# Altium integrated library Xilinx XC17S00A.IntLib: 46 symbols (part 1 of 2)
Pins are listed as number, name and electrical type; pins without a type are passive.

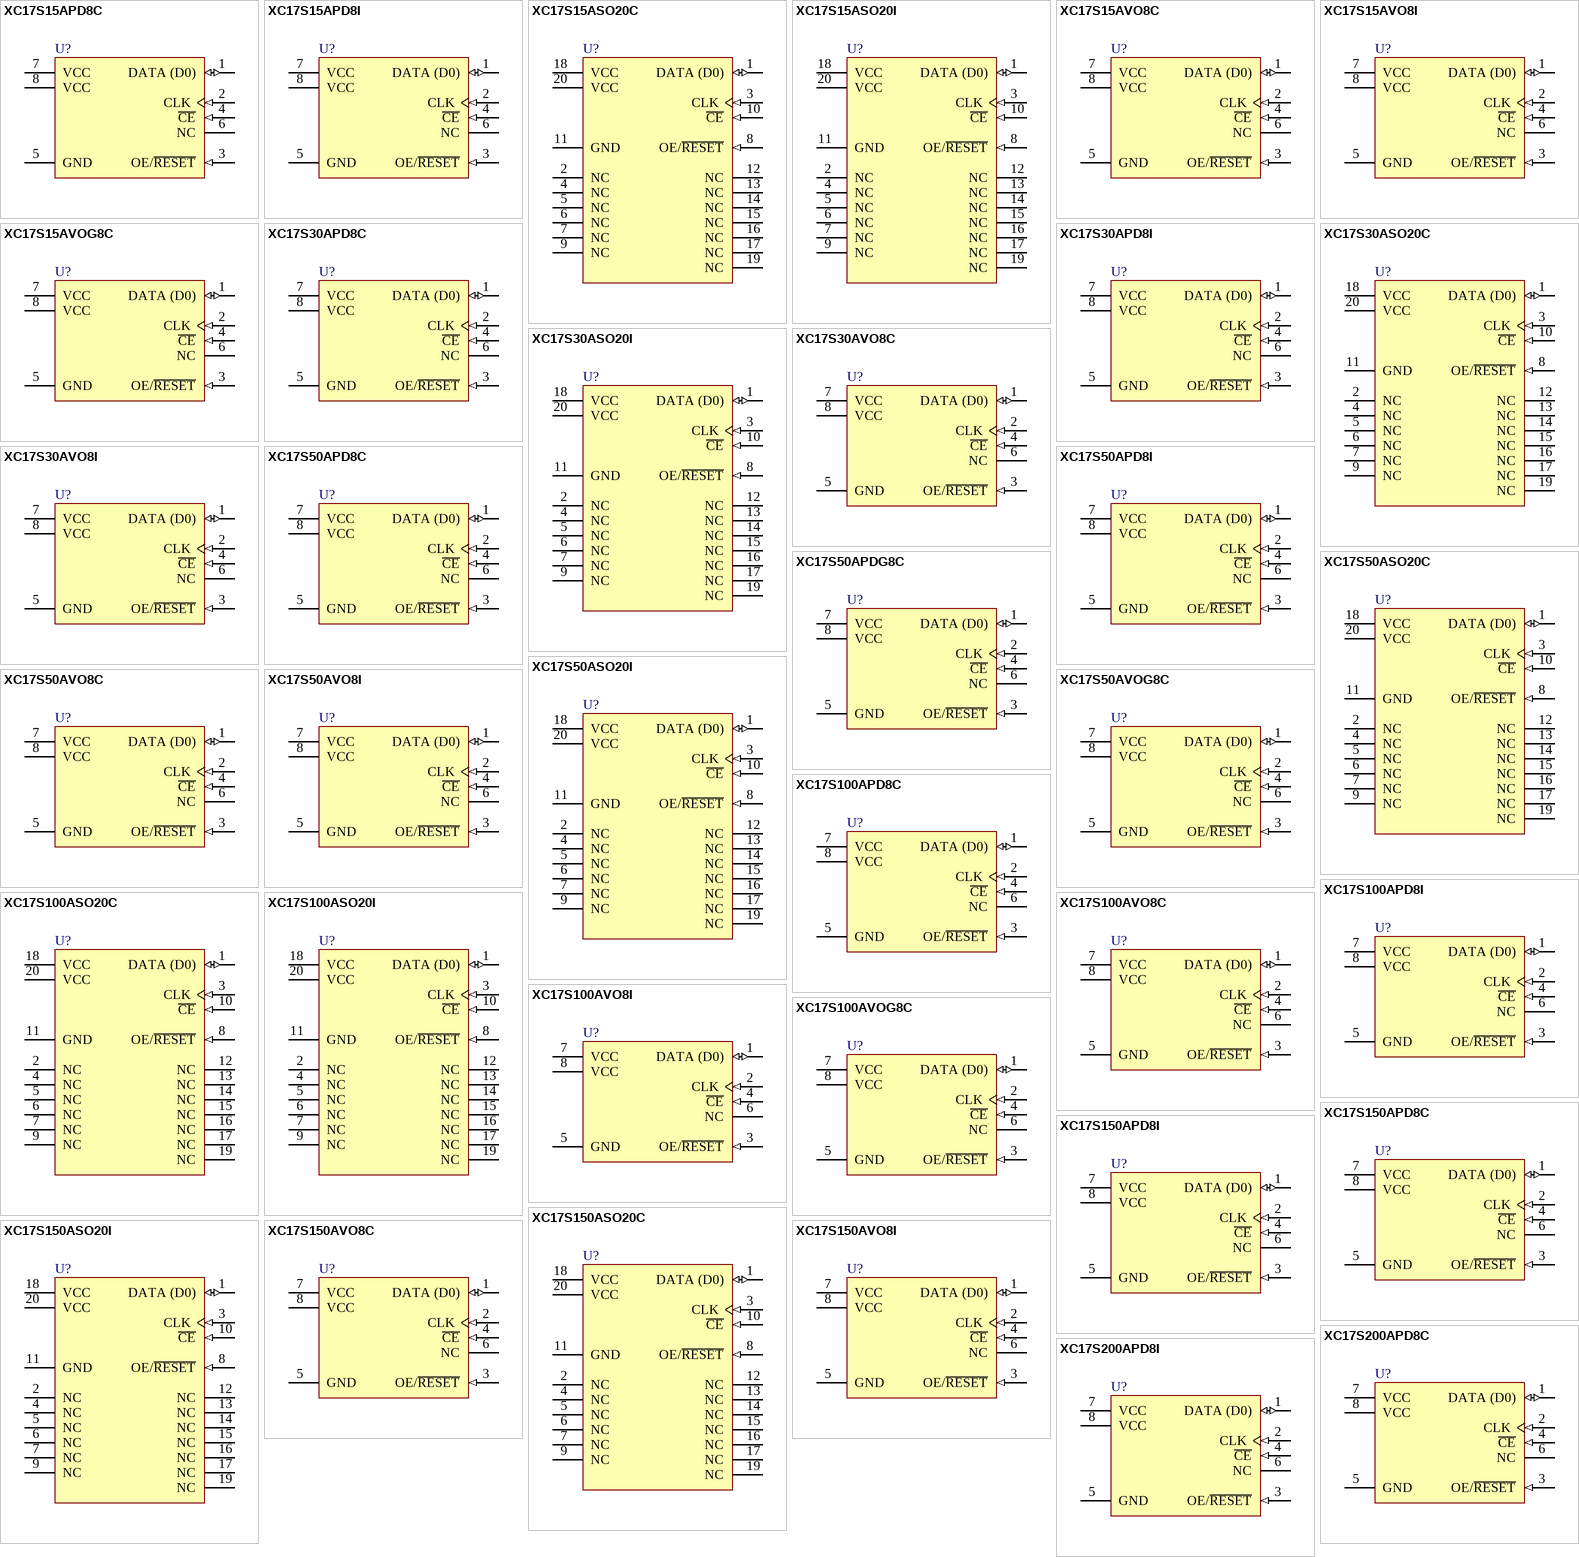
[diagram p0: symbols XC17S15APD8C to XC17S200APD8I]

## XC17S15APD8C
designator U?
XC17S00A Series, One-Time Programmable Configuration 3.3V PROM, 8-Pin PDIP, XC2S15 Compatible, Commercial Grade; Published: 17-Dec-2003; DatasheetVersion: ver1.10, Jun-2007; PackageVersion: rev1.1, Apr-2001; PackageReference: PD8; Publisher: Altium Limited; PackageDescription: 8-Pin Plastic DIP (PD8); Supplier 1: Digi-Key; Supplier Part Number 1: XC17S15APD8C-ND; Code_JEDEC: MS-001-BA; ComponentLink1Description: XC17S00A Datasheet; ComponentLink1URL: http://www.xilinx.com/support/documentation/data_sheets/ds078.pdf; ComponentLink2Description: PD8 Package Drawing; ComponentLink2URL: http://www.xilinx.com/support/documentation/package_specs/pd08.pdf; ComponentLink3Description: Configuration PROM Documents; ComponentLink3URL: http://www.xilinx.com/support/documentation/configuration_proms.htm; ComponentLink4Description: Xilinx.com Home; ComponentLink4URL: http://www.xilinx.com
footprint PD8 (DIP, 8-Leads, Row Spacing 7.62mm, Pitch 2.54mm, Body 9.36x6.5mm)
pins: 1 DATA (D0) (io) "Data Output.", 2 CLK (in) "Clock input for internal address counter.", 3 OE/~{RESET} (in) "DATA Output Enable/Address Counter Reset", 4 ~{CE} (in) "Reset internal Address Counter, Disable DATA Output, Force device into Standby Mode.", 5 GND (power) "Ground.", 6 NC "No Connection.", 7 VCC (power) "Positive Supply.", 8 VCC (power) "Positive Supply."

## XC17S15APD8I
designator U?
XC17S00A Series, One-Time Programmable Configuration 3.3V PROM, 8-Pin PDIP, XC2S15 Compatible, Industrial Grade; Published: 17-Dec-2003; DatasheetVersion: ver1.10, Jun-2007; PackageVersion: rev1.1, Apr-2001; PackageReference: PD8; Publisher: Altium Limited; PackageDescription: 8-Pin Plastic DIP (PD8); Supplier 1: Digi-Key; Supplier Part Number 1: XC17S15APD8I-ND; Code_JEDEC: MS-001-BA; ComponentLink1Description: XC17S00A Datasheet; ComponentLink1URL: http://www.xilinx.com/support/documentation/data_sheets/ds078.pdf; ComponentLink2Description: PD8 Package Drawing; ComponentLink2URL: http://www.xilinx.com/support/documentation/package_specs/pd08.pdf; ComponentLink3Description: Configuration PROM Documents; ComponentLink3URL: http://www.xilinx.com/support/documentation/configuration_proms.htm; ComponentLink4Description: Xilinx.com Home; ComponentLink4URL: http://www.xilinx.com
footprint PD8 (DIP, 8-Leads, Row Spacing 7.62mm, Pitch 2.54mm, Body 9.36x6.5mm)
pins: 1 DATA (D0) (io) "Data Output.", 2 CLK (in) "Clock input for internal address counter.", 3 OE/~{RESET} (in) "DATA Output Enable/Address Counter Reset", 4 ~{CE} (in) "Reset internal Address Counter, Disable DATA Output, Force device into Standby Mode.", 5 GND (power) "Ground.", 6 NC "No Connection.", 7 VCC (power) "Positive Supply.", 8 VCC (power) "Positive Supply."

## XC17S15ASO20C
designator U?
XC17S00A Series, One-Time Programmable Configuration 3.3V PROM, 20-Pin SOIC, XC2S15 Compatible, Commercial Grade; Published: 17-Dec-2003; LatestRevisionDate: 16-Nov-2009; LatestRevisionNote: Updated to datasheet version 1.10, Jun-2007.; DatasheetVersion: ver1.10, Jun-2007; PackageVersion: ver1.0, Jun-2000; PackageReference: SO20; Publisher: Altium Limited; PackageDescription: 20-Pin Small Outline Package (SO20); Supplier 1: Digi-Key; Supplier Part Number 1: XC17S15ASO20C-ND; Code_JEDEC: MS-013-AC; ComponentLink1Description: XC17S00A Datasheet; ComponentLink1URL: http://www.xilinx.com/support/documentation/data_sheets/ds078.pdf; ComponentLink2Description: SO20 Package Drawing; ComponentLink2URL: http://www.xilinx.com/support/documentation/package_specs/so20.pdf; ComponentLink3Description: Configuration PROM Documents; ComponentLink3URL: http://www.xilinx.com/support/documentation/configuration_proms.htm; ComponentLink4Description: Xilinx.com Home; ComponentLink4URL: http://www.xilinx.com
footprint SO20_N (SOIC, 20-Leads, Body 12.8x7.5mm, Pitch 1.27mm, IPC Medium Density)
footprint SO20_L (SOIC, 20-Leads, Body 12.8x7.5mm, Pitch 1.27mm, IPC High Density)
footprint SO20_M (SOIC, 20-Leads, Body 12.8x7.5mm, Pitch 1.27mm, IPC Low Density)
pins: 1 DATA (D0) (io) "Data Output.", 2 NC "No Connection.", 3 CLK (in) "Clock input for internal address counter.", 4 NC "No Connection.", 5 NC "No Connection.", 6 NC "No Connection.", 7 NC "No Connection.", 8 OE/~{RESET} (in) "DATA Output Enable/Address Counter Reset", 9 NC "No Connection.", 10 ~{CE} (in) "Reset internal Address Counter, Disable DATA Output, Force device into Standby Mode.", 11 GND (power) "Ground.", 12 NC "No Connection.", 13 NC "No Connection.", 14 NC "No Connection.", 15 NC "No Connection.", 16 NC "No Connection.", 17 NC "No Connection.", 18 VCC (power) "Positive Supply.", 19 NC "No Connection.", 20 VCC (power) "Positive Supply."

## XC17S15ASO20I
designator U?
XC17S00A Series, One-Time Programmable Configuration 3.3V PROM, 20-Pin SOIC, XC2S15 Compatible, Industrial Grade; Published: 17-Dec-2003; LatestRevisionDate: 16-Nov-2009; LatestRevisionNote: Updated to datasheet version 1.10, Jun-2007.; DatasheetVersion: ver1.10, Jun-2007; PackageVersion: ver1.0, Jun-2000; PackageReference: SO20; Publisher: Altium Limited; PackageDescription: 20-Pin Small Outline Package (SO20); Supplier 1: Digi-Key; Supplier Part Number 1: XC17S15ASO20I-ND; Code_JEDEC: MS-013-AC; ComponentLink1Description: XC17S00A Datasheet; ComponentLink1URL: http://www.xilinx.com/support/documentation/data_sheets/ds078.pdf; ComponentLink2Description: SO20 Package Drawing; ComponentLink2URL: http://www.xilinx.com/support/documentation/package_specs/so20.pdf; ComponentLink3Description: Configuration PROM Documents; ComponentLink3URL: http://www.xilinx.com/support/documentation/configuration_proms.htm; ComponentLink4Description: Xilinx.com Home; ComponentLink4URL: http://www.xilinx.com
footprint SO20_N (SOIC, 20-Leads, Body 12.8x7.5mm, Pitch 1.27mm, IPC Medium Density)
footprint SO20_L (SOIC, 20-Leads, Body 12.8x7.5mm, Pitch 1.27mm, IPC High Density)
footprint SO20_M (SOIC, 20-Leads, Body 12.8x7.5mm, Pitch 1.27mm, IPC Low Density)
pins: 1 DATA (D0) (io) "Data Output.", 2 NC "No Connection.", 3 CLK (in) "Clock input for internal address counter.", 4 NC "No Connection.", 5 NC "No Connection.", 6 NC "No Connection.", 7 NC "No Connection.", 8 OE/~{RESET} (in) "DATA Output Enable/Address Counter Reset", 9 NC "No Connection.", 10 ~{CE} (in) "Reset internal Address Counter, Disable DATA Output, Force device into Standby Mode.", 11 GND (power) "Ground.", 12 NC "No Connection.", 13 NC "No Connection.", 14 NC "No Connection.", 15 NC "No Connection.", 16 NC "No Connection.", 17 NC "No Connection.", 18 VCC (power) "Positive Supply.", 19 NC "No Connection.", 20 VCC (power) "Positive Supply."

## XC17S15AVO8C
designator U?
XC17S00A Series, One-Time Programmable Configuration 3.3V PROM, 8-Pin TSOP, XC2S15 Compatible, Commercial Grade; Published: 17-Dec-2003; LatestRevisionDate: 16-Nov-2009; LatestRevisionNote: Updated to datasheet version 1.10, Jun-2007.; DatasheetVersion: ver1.10, Jun-2007; PackageVersion: ver1.1, Apr-2001; PackageReference: VO8; Publisher: Altium Limited; PackageDescription: 8-Pin Thin Small Outline Package (VO8); Supplier 1: Digi-Key; Supplier Part Number 1: XC17S15AVO8C-ND; ComponentLink1Description: XC17S00A Datasheet; ComponentLink1URL: http://www.xilinx.com/support/documentation/data_sheets/ds078.pdf; ComponentLink2Description: VO8 Package Drawing; ComponentLink2URL: http://www.xilinx.com/support/documentation/package_specs/vo8.pdf; ComponentLink3Description: Configuration PROM Documents; ComponentLink3URL: http://www.xilinx.com/support/documentation/configuration_proms.htm; ComponentLink4Description: Xilinx.com Home; ComponentLink4URL: http://www.xilinx.com
footprint VO8_N (SOIC, 8-Leads, Body 4.9x3.9mm, Pitch 1.27mm, IPC Medium Density)
footprint VO8_L (SOIC, 8-Leads, Body 4.9x3.9mm, Pitch 1.27mm, IPC High Density)
footprint VO8_M (SOIC, 8-Leads, Body 4.9x3.9mm, Pitch 1.27mm, IPC Low Density)
pins: 1 DATA (D0) (io) "Data Output.", 2 CLK (in) "Clock input for internal address counter.", 3 OE/~{RESET} (in) "DATA Output Enable/Address Counter Reset", 4 ~{CE} (in) "Reset internal Address Counter, Disable DATA Output, Force device into Standby Mode.", 5 GND (power) "Ground.", 6 NC "No Connection.", 7 VCC (power) "Positive Supply.", 8 VCC (power) "Positive Supply."

## XC17S15AVO8I
designator U?
XC17S00A Series, One-Time Programmable Configuration 3.3V PROM, 8-Pin TSOP, XC2S15 Compatible, Industrial Grade; Published: 17-Dec-2003; LatestRevisionDate: 16-Nov-2009; LatestRevisionNote: Updated to datasheet version 1.10, Jun-2007.; DatasheetVersion: ver1.10, Jun-2007; PackageVersion: ver1.1, Apr-2001; PackageReference: VO8; Publisher: Altium Limited; PackageDescription: 8-Pin Thin Small Outline Package (VO8); Supplier 1: Digi-Key; Supplier Part Number 1: XC17S15AVO8I-ND; ComponentLink1Description: XC17S00A Datasheet; ComponentLink1URL: http://www.xilinx.com/support/documentation/data_sheets/ds078.pdf; ComponentLink2Description: VO8 Package Drawing; ComponentLink2URL: http://www.xilinx.com/support/documentation/package_specs/vo8.pdf; ComponentLink3Description: Configuration PROM Documents; ComponentLink3URL: http://www.xilinx.com/support/documentation/configuration_proms.htm; ComponentLink4Description: Xilinx.com Home; ComponentLink4URL: http://www.xilinx.com
footprint VO8_N (SOIC, 8-Leads, Body 4.9x3.9mm, Pitch 1.27mm, IPC Medium Density)
footprint VO8_L (SOIC, 8-Leads, Body 4.9x3.9mm, Pitch 1.27mm, IPC High Density)
footprint VO8_M (SOIC, 8-Leads, Body 4.9x3.9mm, Pitch 1.27mm, IPC Low Density)
pins: 1 DATA (D0) (io) "Data Output.", 2 CLK (in) "Clock input for internal address counter.", 3 OE/~{RESET} (in) "DATA Output Enable/Address Counter Reset", 4 ~{CE} (in) "Reset internal Address Counter, Disable DATA Output, Force device into Standby Mode.", 5 GND (power) "Ground.", 6 NC "No Connection.", 7 VCC (power) "Positive Supply.", 8 VCC (power) "Positive Supply."

## XC17S15AVOG8C
designator U?
XC17S00A Series, One-Time Programmable Configuration 3.3V PROM, 8-Pin TSOP, XC2S15 Compatible, Commercial Grade, Pb-Free; Published: 6-Oct-2005; LatestRevisionDate: 16-Nov-2009; LatestRevisionNote: Updated to datasheet version 1.10, Jun-2007.; DatasheetVersion: ver1.10, Jun-2007; PackageVersion: ver1.1, Apr-2001; PackageReference: VOG8; Publisher: Altium Limited; PackageDescription: 8-Pin Thin Small Outline Package (VOG8) - Pb-Free; Supplier 1: Digi-Key; Supplier Part Number 1: XC17S15AVOG8C-ND; ComponentLink1Description: XC17S00A Datasheet; ComponentLink1URL: http://www.xilinx.com/support/documentation/data_sheets/ds078.pdf; ComponentLink2Description: VOG8 Package Drawing; ComponentLink2URL: http://www.xilinx.com/support/documentation/package_specs/vo8.pdf; ComponentLink3Description: Configuration PROM Documents; ComponentLink3URL: http://www.xilinx.com/support/documentation/configuration_proms.htm; ComponentLink4Description: Xilinx.com Home; ComponentLink4URL: http://www.xilinx.com
footprint VOG8_N (SOIC, 8-Leads, Body 4.9x3.9mm, Pitch 1.27mm, IPC Medium Density)
footprint VOG8_L (SOIC, 8-Leads, Body 4.9x3.9mm, Pitch 1.27mm, IPC High Density)
footprint VOG8_M (SOIC, 8-Leads, Body 4.9x3.9mm, Pitch 1.27mm, IPC Low Density)
pins: 1 DATA (D0) (io) "Data Output.", 2 CLK (in) "Clock input for internal address counter.", 3 OE/~{RESET} (in) "DATA Output Enable/Address Counter Reset", 4 ~{CE} (in) "Reset internal Address Counter, Disable DATA Output, Force device into Standby Mode.", 5 GND (power) "Ground.", 6 NC "No Connection.", 7 VCC (power) "Positive Supply.", 8 VCC (power) "Positive Supply."

## XC17S30APD8C
designator U?
XC17S00A Series, One-Time Programmable Configuration 3.3V PROM, 8-Pin PDIP, XC2S30 Compatible, Commercial Grade; Published: 17-Dec-2003; DatasheetVersion: ver1.10, Jun-2007; PackageVersion: rev1.1, Apr-2001; PackageReference: PD8; Publisher: Altium Limited; PackageDescription: 8-Pin Plastic DIP (PD8); Supplier 1: Digi-Key; Supplier Part Number 1: XC17S30APD8C-ND; Code_JEDEC: MS-001-BA; ComponentLink1Description: XC17S00A Datasheet; ComponentLink1URL: http://www.xilinx.com/support/documentation/data_sheets/ds078.pdf; ComponentLink2Description: PD8 Package Drawing; ComponentLink2URL: http://www.xilinx.com/support/documentation/package_specs/pd08.pdf; ComponentLink3Description: Configuration PROM Documents; ComponentLink3URL: http://www.xilinx.com/support/documentation/configuration_proms.htm; ComponentLink4Description: Xilinx.com Home; ComponentLink4URL: http://www.xilinx.com
footprint PD8 (DIP, 8-Leads, Row Spacing 7.62mm, Pitch 2.54mm, Body 9.36x6.5mm)
pins: 1 DATA (D0) (io) "Data Output.", 2 CLK (in) "Clock input for internal address counter.", 3 OE/~{RESET} (in) "DATA Output Enable/Address Counter Reset", 4 ~{CE} (in) "Reset internal Address Counter, Disable DATA Output, Force device into Standby Mode.", 5 GND (power) "Ground.", 6 NC "No Connection.", 7 VCC (power) "Positive Supply.", 8 VCC (power) "Positive Supply."

## XC17S30APD8I
designator U?
XC17S00A Series, One-Time Programmable Configuration 3.3V PROM, 8-Pin PDIP, XC2S30 Compatible, Industrial Grade; Published: 17-Dec-2003; DatasheetVersion: ver1.10, Jun-2007; PackageVersion: rev1.1, Apr-2001; PackageReference: PD8; Publisher: Altium Limited; PackageDescription: 8-Pin Plastic DIP (PD8); Supplier 1: Digi-Key; Supplier Part Number 1: XC17S30APD8I-ND; Code_JEDEC: MS-001-BA; ComponentLink1Description: XC17S00A Datasheet; ComponentLink1URL: http://www.xilinx.com/support/documentation/data_sheets/ds078.pdf; ComponentLink2Description: PD8 Package Drawing; ComponentLink2URL: http://www.xilinx.com/support/documentation/package_specs/pd08.pdf; ComponentLink3Description: Configuration PROM Documents; ComponentLink3URL: http://www.xilinx.com/support/documentation/configuration_proms.htm; ComponentLink4Description: Xilinx.com Home; ComponentLink4URL: http://www.xilinx.com
footprint PD8 (DIP, 8-Leads, Row Spacing 7.62mm, Pitch 2.54mm, Body 9.36x6.5mm)
pins: 1 DATA (D0) (io) "Data Output.", 2 CLK (in) "Clock input for internal address counter.", 3 OE/~{RESET} (in) "DATA Output Enable/Address Counter Reset", 4 ~{CE} (in) "Reset internal Address Counter, Disable DATA Output, Force device into Standby Mode.", 5 GND (power) "Ground.", 6 NC "No Connection.", 7 VCC (power) "Positive Supply.", 8 VCC (power) "Positive Supply."

## XC17S30ASO20C
designator U?
XC17S00A Series, One-Time Programmable Configuration 3.3V PROM, 20-Pin SOIC, XC2S30 Compatible, Commercial Grade; Published: 17-Dec-2003; LatestRevisionDate: 16-Nov-2009; LatestRevisionNote: Updated to datasheet version 1.10, Jun-2007.; DatasheetVersion: ver1.10, Jun-2007; PackageVersion: ver1.0, Jun-2000; PackageReference: SO20; Publisher: Altium Limited; PackageDescription: 20-Pin Small Outline Package (SO20); Supplier 1: Digi-Key; Supplier Part Number 1: XC17S30ASO20C-ND; Code_JEDEC: MS-013-AC; ComponentLink1Description: XC17S00A Datasheet; ComponentLink1URL: http://www.xilinx.com/support/documentation/data_sheets/ds078.pdf; ComponentLink2Description: SO20 Package Drawing; ComponentLink2URL: http://www.xilinx.com/support/documentation/package_specs/so20.pdf; ComponentLink3Description: Configuration PROM Documents; ComponentLink3URL: http://www.xilinx.com/support/documentation/configuration_proms.htm; ComponentLink4Description: Xilinx.com Home; ComponentLink4URL: http://www.xilinx.com
footprint SO20_N (SOIC, 20-Leads, Body 12.8x7.5mm, Pitch 1.27mm, IPC Medium Density)
footprint SO20_L (SOIC, 20-Leads, Body 12.8x7.5mm, Pitch 1.27mm, IPC High Density)
footprint SO20_M (SOIC, 20-Leads, Body 12.8x7.5mm, Pitch 1.27mm, IPC Low Density)
pins: 1 DATA (D0) (io) "Data Output.", 2 NC "No Connection.", 3 CLK (in) "Clock input for internal address counter.", 4 NC "No Connection.", 5 NC "No Connection.", 6 NC "No Connection.", 7 NC "No Connection.", 8 OE/~{RESET} (in) "DATA Output Enable/Address Counter Reset", 9 NC "No Connection.", 10 ~{CE} (in) "Reset internal Address Counter, Disable DATA Output, Force device into Standby Mode.", 11 GND (power) "Ground.", 12 NC "No Connection.", 13 NC "No Connection.", 14 NC "No Connection.", 15 NC "No Connection.", 16 NC "No Connection.", 17 NC "No Connection.", 18 VCC (power) "Positive Supply.", 19 NC "No Connection.", 20 VCC (power) "Positive Supply."

## XC17S30ASO20I
designator U?
XC17S00A Series, One-Time Programmable Configuration 3.3V PROM, 20-Pin SOIC, XC2S30 Compatible, Industrial Grade; Published: 17-Dec-2003; LatestRevisionDate: 16-Nov-2009; LatestRevisionNote: Updated to datasheet version 1.10, Jun-2007.; DatasheetVersion: ver1.10, Jun-2007; PackageVersion: ver1.0, Jun-2000; PackageReference: SO20; Publisher: Altium Limited; PackageDescription: 20-Pin Small Outline Package (SO20); Supplier 1: Digi-Key; Supplier Part Number 1: XC17S30ASO20I-ND; Code_JEDEC: MS-013-AC; ComponentLink1Description: XC17S00A Datasheet; ComponentLink1URL: http://www.xilinx.com/support/documentation/data_sheets/ds078.pdf; ComponentLink2Description: SO20 Package Drawing; ComponentLink2URL: http://www.xilinx.com/support/documentation/package_specs/so20.pdf; ComponentLink3Description: Configuration PROM Documents; ComponentLink3URL: http://www.xilinx.com/support/documentation/configuration_proms.htm; ComponentLink4Description: Xilinx.com Home; ComponentLink4URL: http://www.xilinx.com
footprint SO20_N (SOIC, 20-Leads, Body 12.8x7.5mm, Pitch 1.27mm, IPC Medium Density)
footprint SO20_L (SOIC, 20-Leads, Body 12.8x7.5mm, Pitch 1.27mm, IPC High Density)
footprint SO20_M (SOIC, 20-Leads, Body 12.8x7.5mm, Pitch 1.27mm, IPC Low Density)
pins: 1 DATA (D0) (io) "Data Output.", 2 NC "No Connection.", 3 CLK (in) "Clock input for internal address counter.", 4 NC "No Connection.", 5 NC "No Connection.", 6 NC "No Connection.", 7 NC "No Connection.", 8 OE/~{RESET} (in) "DATA Output Enable/Address Counter Reset", 9 NC "No Connection.", 10 ~{CE} (in) "Reset internal Address Counter, Disable DATA Output, Force device into Standby Mode.", 11 GND (power) "Ground.", 12 NC "No Connection.", 13 NC "No Connection.", 14 NC "No Connection.", 15 NC "No Connection.", 16 NC "No Connection.", 17 NC "No Connection.", 18 VCC (power) "Positive Supply.", 19 NC "No Connection.", 20 VCC (power) "Positive Supply."

## XC17S30AVO8C
designator U?
XC17S00A Series, One-Time Programmable Configuration 3.3V PROM, 8-Pin TSOP, XC2S30 Compatible, Commercial Grade; Published: 17-Dec-2003; LatestRevisionDate: 16-Nov-2009; LatestRevisionNote: Updated to datasheet version 1.10, Jun-2007.; DatasheetVersion: ver1.10, Jun-2007; PackageVersion: ver1.1, Apr-2001; PackageReference: VO8; Publisher: Altium Limited; PackageDescription: 8-Pin Thin Small Outline Package (VO8); Supplier 1: Digi-Key; Supplier Part Number 1: XC17S30AVO8C-ND; ComponentLink1Description: XC17S00A Datasheet; ComponentLink1URL: http://www.xilinx.com/support/documentation/data_sheets/ds078.pdf; ComponentLink2Description: VO8 Package Drawing; ComponentLink2URL: http://www.xilinx.com/support/documentation/package_specs/vo8.pdf; ComponentLink3Description: Configuration PROM Documents; ComponentLink3URL: http://www.xilinx.com/support/documentation/configuration_proms.htm; ComponentLink4Description: Xilinx.com Home; ComponentLink4URL: http://www.xilinx.com
footprint VO8_N (SOIC, 8-Leads, Body 4.9x3.9mm, Pitch 1.27mm, IPC Medium Density)
footprint VO8_L (SOIC, 8-Leads, Body 4.9x3.9mm, Pitch 1.27mm, IPC High Density)
footprint VO8_M (SOIC, 8-Leads, Body 4.9x3.9mm, Pitch 1.27mm, IPC Low Density)
pins: 1 DATA (D0) (io) "Data Output.", 2 CLK (in) "Clock input for internal address counter.", 3 OE/~{RESET} (in) "DATA Output Enable/Address Counter Reset", 4 ~{CE} (in) "Reset internal Address Counter, Disable DATA Output, Force device into Standby Mode.", 5 GND (power) "Ground.", 6 NC "No Connection.", 7 VCC (power) "Positive Supply.", 8 VCC (power) "Positive Supply."

## XC17S30AVO8I
designator U?
XC17S00A Series, One-Time Programmable Configuration 3.3V PROM, 8-Pin TSOP, XC2S30 Compatible, Industrial Grade; Published: 17-Dec-2003; LatestRevisionDate: 16-Nov-2009; LatestRevisionNote: Updated to datasheet version 1.10, Jun-2007.; DatasheetVersion: ver1.10, Jun-2007; PackageVersion: ver1.1, Apr-2001; PackageReference: VO8; Publisher: Altium Limited; PackageDescription: 8-Pin Thin Small Outline Package (VO8); Supplier 1: Digi-Key; Supplier Part Number 1: XC17S30AVO8I-ND; ComponentLink1Description: XC17S00A Datasheet; ComponentLink1URL: http://www.xilinx.com/support/documentation/data_sheets/ds078.pdf; ComponentLink2Description: VO8 Package Drawing; ComponentLink2URL: http://www.xilinx.com/support/documentation/package_specs/vo8.pdf; ComponentLink3Description: Configuration PROM Documents; ComponentLink3URL: http://www.xilinx.com/support/documentation/configuration_proms.htm; ComponentLink4Description: Xilinx.com Home; ComponentLink4URL: http://www.xilinx.com
footprint VO8_N (SOIC, 8-Leads, Body 4.9x3.9mm, Pitch 1.27mm, IPC Medium Density)
footprint VO8_L (SOIC, 8-Leads, Body 4.9x3.9mm, Pitch 1.27mm, IPC High Density)
footprint VO8_M (SOIC, 8-Leads, Body 4.9x3.9mm, Pitch 1.27mm, IPC Low Density)
pins: 1 DATA (D0) (io) "Data Output.", 2 CLK (in) "Clock input for internal address counter.", 3 OE/~{RESET} (in) "DATA Output Enable/Address Counter Reset", 4 ~{CE} (in) "Reset internal Address Counter, Disable DATA Output, Force device into Standby Mode.", 5 GND (power) "Ground.", 6 NC "No Connection.", 7 VCC (power) "Positive Supply.", 8 VCC (power) "Positive Supply."

## XC17S50APD8C
designator U?
XC17S00A Series, One-Time Programmable Configuration 3.3V PROM, 8-Pin PDIP, XC2S50/XC2S50E Compatible, Commercial Grade; Published: 17-Dec-2003; DatasheetVersion: ver1.10, Jun-2007; PackageVersion: rev1.1, Apr-2001; PackageReference: PD8; Publisher: Altium Limited; PackageDescription: 8-Pin Plastic DIP (PD8); Supplier 1: Digi-Key; Supplier Part Number 1: XC17S50APD8C-ND; Code_JEDEC: MS-001-BA; ComponentLink1Description: XC17S00A Datasheet; ComponentLink1URL: http://www.xilinx.com/support/documentation/data_sheets/ds078.pdf; ComponentLink2Description: PD8 Package Drawing; ComponentLink2URL: http://www.xilinx.com/support/documentation/package_specs/pd08.pdf; ComponentLink3Description: Configuration PROM Documents; ComponentLink3URL: http://www.xilinx.com/support/documentation/configuration_proms.htm; ComponentLink4Description: Xilinx.com Home; ComponentLink4URL: http://www.xilinx.com
footprint PD8 (DIP, 8-Leads, Row Spacing 7.62mm, Pitch 2.54mm, Body 9.36x6.5mm)
pins: 1 DATA (D0) (io) "Data Output.", 2 CLK (in) "Clock input for internal address counter.", 3 OE/~{RESET} (in) "DATA Output Enable/Address Counter Reset", 4 ~{CE} (in) "Reset internal Address Counter, Disable DATA Output, Force device into Standby Mode.", 5 GND (power) "Ground.", 6 NC "No Connection.", 7 VCC (power) "Positive Supply.", 8 VCC (power) "Positive Supply."

## XC17S50APD8I
designator U?
XC17S00A Series, One-Time Programmable Configuration 3.3V PROM, 8-Pin PDIP, XC2S50/XC2S50E Compatible, Industrial Grade; Published: 17-Dec-2003; DatasheetVersion: ver1.10, Jun-2007; PackageVersion: rev1.1, Apr-2001; PackageReference: PD8; Publisher: Altium Limited; PackageDescription: 8-Pin Plastic DIP (PD8); Supplier 1: Digi-Key; Supplier Part Number 1: XC17S50APD8I-ND; Code_JEDEC: MS-001-BA; ComponentLink1Description: XC17S00A Datasheet; ComponentLink1URL: http://www.xilinx.com/support/documentation/data_sheets/ds078.pdf; ComponentLink2Description: PD8 Package Drawing; ComponentLink2URL: http://www.xilinx.com/support/documentation/package_specs/pd08.pdf; ComponentLink3Description: Configuration PROM Documents; ComponentLink3URL: http://www.xilinx.com/support/documentation/configuration_proms.htm; ComponentLink4Description: Xilinx.com Home; ComponentLink4URL: http://www.xilinx.com
footprint PD8 (DIP, 8-Leads, Row Spacing 7.62mm, Pitch 2.54mm, Body 9.36x6.5mm)
pins: 1 DATA (D0) (io) "Data Output.", 2 CLK (in) "Clock input for internal address counter.", 3 OE/~{RESET} (in) "DATA Output Enable/Address Counter Reset", 4 ~{CE} (in) "Reset internal Address Counter, Disable DATA Output, Force device into Standby Mode.", 5 GND (power) "Ground.", 6 NC "No Connection.", 7 VCC (power) "Positive Supply.", 8 VCC (power) "Positive Supply."

## XC17S50APDG8C
designator U?
XC17S00A Series, One-Time Programmable Configuration 3.3V PROM, 8-Pin PDIP, XC2S50/XC2S50E Compatible, Commercial Grade, Pb-Free; Published: 17-Nov-2009; DatasheetVersion: ver1.10, Jun-2007; PackageVersion: rev1.1, Apr-2001; PackageReference: PDG8; Publisher: Altium Limited; PackageDescription: 8-Pin Plastic DIP (PDG8), Pb-Free; Supplier 1: Digi-Key; Supplier Part Number 1: XC17S50APDG8C-ND; Code_JEDEC: MS-001-BA; ComponentLink1Description: XC17S00A Datasheet; ComponentLink1URL: http://www.xilinx.com/support/documentation/data_sheets/ds078.pdf; ComponentLink2Description: PDG8 Package Drawing; ComponentLink2URL: http://www.xilinx.com/support/documentation/package_specs/pd08.pdf; ComponentLink3Description: Configuration PROM Documents; ComponentLink3URL: http://www.xilinx.com/support/documentation/configuration_proms.htm; ComponentLink4Description: Xilinx.com Home; ComponentLink4URL: http://www.xilinx.com
footprint PDG8 (DIP, 8-Leads, Row Spacing 7.62mm, Pitch 2.54mm, Body 9.36x6.5mm)
pins: 1 DATA (D0) (io) "Data Output.", 2 CLK (in) "Clock input for internal address counter.", 3 OE/~{RESET} (in) "DATA Output Enable/Address Counter Reset", 4 ~{CE} (in) "Reset internal Address Counter, Disable DATA Output, Force device into Standby Mode.", 5 GND (power) "Ground.", 6 NC "No Connection.", 7 VCC (power) "Positive Supply.", 8 VCC (power) "Positive Supply."

## XC17S50ASO20C
designator U?
XC17S00A Series, One-Time Programmable Configuration 3.3V PROM, 20-Pin SOIC, XC2S50/XC2S50E Compatible, Commercial Grade; Published: 17-Dec-2003; LatestRevisionDate: 16-Nov-2009; LatestRevisionNote: Updated to datasheet version 1.10, Jun-2007.; DatasheetVersion: ver1.10, Jun-2007; PackageVersion: ver1.0, Jun-2000; PackageReference: SO20; Publisher: Altium Limited; PackageDescription: 20-Pin Small Outline Package (SO20); Supplier 1: Digi-Key; Supplier Part Number 1: XC17S50ASO20C-ND; Code_JEDEC: MS-013-AC; ComponentLink1Description: XC17S00A Datasheet; ComponentLink1URL: http://www.xilinx.com/support/documentation/data_sheets/ds078.pdf; ComponentLink2Description: SO20 Package Drawing; ComponentLink2URL: http://www.xilinx.com/support/documentation/package_specs/so20.pdf; ComponentLink3Description: Configuration PROM Documents; ComponentLink3URL: http://www.xilinx.com/support/documentation/configuration_proms.htm; ComponentLink4Description: Xilinx.com Home; ComponentLink4URL: http://www.xilinx.com
footprint SO20_N (SOIC, 20-Leads, Body 12.8x7.5mm, Pitch 1.27mm, IPC Medium Density)
footprint SO20_L (SOIC, 20-Leads, Body 12.8x7.5mm, Pitch 1.27mm, IPC High Density)
footprint SO20_M (SOIC, 20-Leads, Body 12.8x7.5mm, Pitch 1.27mm, IPC Low Density)
pins: 1 DATA (D0) (io) "Data Output.", 2 NC "No Connection.", 3 CLK (in) "Clock input for internal address counter.", 4 NC "No Connection.", 5 NC "No Connection.", 6 NC "No Connection.", 7 NC "No Connection.", 8 OE/~{RESET} (in) "DATA Output Enable/Address Counter Reset", 9 NC "No Connection.", 10 ~{CE} (in) "Reset internal Address Counter, Disable DATA Output, Force device into Standby Mode.", 11 GND (power) "Ground.", 12 NC "No Connection.", 13 NC "No Connection.", 14 NC "No Connection.", 15 NC "No Connection.", 16 NC "No Connection.", 17 NC "No Connection.", 18 VCC (power) "Positive Supply.", 19 NC "No Connection.", 20 VCC (power) "Positive Supply."

## XC17S50ASO20I
designator U?
XC17S00A Series, One-Time Programmable Configuration 3.3V PROM, 20-Pin SOIC, XC2S50/XC2S50E Compatible, Industrial Grade; Published: 17-Dec-2003; LatestRevisionDate: 16-Nov-2009; LatestRevisionNote: Updated to datasheet version 1.10, Jun-2007.; DatasheetVersion: ver1.10, Jun-2007; PackageVersion: ver1.0, Jun-2000; PackageReference: SO20; Publisher: Altium Limited; PackageDescription: 20-Pin Small Outline Package (SO20); Supplier 1: Digi-Key; Supplier Part Number 1: XC17S50ASO20I-ND; Code_JEDEC: MS-013-AC; ComponentLink1Description: XC17S00A Datasheet; ComponentLink1URL: http://www.xilinx.com/support/documentation/data_sheets/ds078.pdf; ComponentLink2Description: SO20 Package Drawing; ComponentLink2URL: http://www.xilinx.com/support/documentation/package_specs/so20.pdf; ComponentLink3Description: Configuration PROM Documents; ComponentLink3URL: http://www.xilinx.com/support/documentation/configuration_proms.htm; ComponentLink4Description: Xilinx.com Home; ComponentLink4URL: http://www.xilinx.com
footprint SO20_N (SOIC, 20-Leads, Body 12.8x7.5mm, Pitch 1.27mm, IPC Medium Density)
footprint SO20_L (SOIC, 20-Leads, Body 12.8x7.5mm, Pitch 1.27mm, IPC High Density)
footprint SO20_M (SOIC, 20-Leads, Body 12.8x7.5mm, Pitch 1.27mm, IPC Low Density)
pins: 1 DATA (D0) (io) "Data Output.", 2 NC "No Connection.", 3 CLK (in) "Clock input for internal address counter.", 4 NC "No Connection.", 5 NC "No Connection.", 6 NC "No Connection.", 7 NC "No Connection.", 8 OE/~{RESET} (in) "DATA Output Enable/Address Counter Reset", 9 NC "No Connection.", 10 ~{CE} (in) "Reset internal Address Counter, Disable DATA Output, Force device into Standby Mode.", 11 GND (power) "Ground.", 12 NC "No Connection.", 13 NC "No Connection.", 14 NC "No Connection.", 15 NC "No Connection.", 16 NC "No Connection.", 17 NC "No Connection.", 18 VCC (power) "Positive Supply.", 19 NC "No Connection.", 20 VCC (power) "Positive Supply."

## XC17S50AVO8C
designator U?
XC17S00A Series, One-Time Programmable Configuration 3.3V PROM, 8-Pin TSOP, XC2S50/XC2S50E Compatible, Commercial Grade; Published: 17-Dec-2003; LatestRevisionDate: 16-Nov-2009; LatestRevisionNote: Updated to datasheet version 1.10, Jun-2007.; DatasheetVersion: ver1.10, Jun-2007; PackageVersion: ver1.1, Apr-2001; PackageReference: VO8; Publisher: Altium Limited; PackageDescription: 8-Pin Thin Small Outline Package (VO8); Supplier 1: Digi-Key; Supplier Part Number 1: XC17S50AVO8C-ND; ComponentLink1Description: XC17S00A Datasheet; ComponentLink1URL: http://www.xilinx.com/support/documentation/data_sheets/ds078.pdf; ComponentLink2Description: VO8 Package Drawing; ComponentLink2URL: http://www.xilinx.com/support/documentation/package_specs/vo8.pdf; ComponentLink3Description: Configuration PROM Documents; ComponentLink3URL: http://www.xilinx.com/support/documentation/configuration_proms.htm; ComponentLink4Description: Xilinx.com Home; ComponentLink4URL: http://www.xilinx.com
footprint VO8_N (SOIC, 8-Leads, Body 4.9x3.9mm, Pitch 1.27mm, IPC Medium Density)
footprint VO8_L (SOIC, 8-Leads, Body 4.9x3.9mm, Pitch 1.27mm, IPC High Density)
footprint VO8_M (SOIC, 8-Leads, Body 4.9x3.9mm, Pitch 1.27mm, IPC Low Density)
pins: 1 DATA (D0) (io) "Data Output.", 2 CLK (in) "Clock input for internal address counter.", 3 OE/~{RESET} (in) "DATA Output Enable/Address Counter Reset", 4 ~{CE} (in) "Reset internal Address Counter, Disable DATA Output, Force device into Standby Mode.", 5 GND (power) "Ground.", 6 NC "No Connection.", 7 VCC (power) "Positive Supply.", 8 VCC (power) "Positive Supply."

## XC17S50AVO8I
designator U?
XC17S00A Series, One-Time Programmable Configuration 3.3V PROM, 8-Pin TSOP, XC2S50/XC2S50E Compatible, Industrial Grade; Published: 17-Dec-2003; LatestRevisionDate: 16-Nov-2009; LatestRevisionNote: Updated to datasheet version 1.10, Jun-2007.; DatasheetVersion: ver1.10, Jun-2007; PackageVersion: ver1.1, Apr-2001; PackageReference: VO8; Publisher: Altium Limited; PackageDescription: 8-Pin Thin Small Outline Package (VO8); Supplier 1: Digi-Key; Supplier Part Number 1: XC17S50AVO8I-ND; ComponentLink1Description: XC17S00A Datasheet; ComponentLink1URL: http://www.xilinx.com/support/documentation/data_sheets/ds078.pdf; ComponentLink2Description: VO8 Package Drawing; ComponentLink2URL: http://www.xilinx.com/support/documentation/package_specs/vo8.pdf; ComponentLink3Description: Configuration PROM Documents; ComponentLink3URL: http://www.xilinx.com/support/documentation/configuration_proms.htm; ComponentLink4Description: Xilinx.com Home; ComponentLink4URL: http://www.xilinx.com
footprint VO8_N (SOIC, 8-Leads, Body 4.9x3.9mm, Pitch 1.27mm, IPC Medium Density)
footprint VO8_L (SOIC, 8-Leads, Body 4.9x3.9mm, Pitch 1.27mm, IPC High Density)
footprint VO8_M (SOIC, 8-Leads, Body 4.9x3.9mm, Pitch 1.27mm, IPC Low Density)
pins: 1 DATA (D0) (io) "Data Output.", 2 CLK (in) "Clock input for internal address counter.", 3 OE/~{RESET} (in) "DATA Output Enable/Address Counter Reset", 4 ~{CE} (in) "Reset internal Address Counter, Disable DATA Output, Force device into Standby Mode.", 5 GND (power) "Ground.", 6 NC "No Connection.", 7 VCC (power) "Positive Supply.", 8 VCC (power) "Positive Supply."

## XC17S50AVOG8C
designator U?
XC17S00A Series, One-Time Programmable Configuration 3.3V PROM, 8-Pin TSOP, XC2S50/XC2S50E Compatible, Commercial Grade, Pb-Free; Published: 17-Nov-2009; DatasheetVersion: ver1.10, Jun-2007; PackageVersion: ver1.1, Apr-2001; PackageReference: VOG8; Publisher: Altium Limited; PackageDescription: 8-Pin Thin Small Outline Package (VOG8) - Pb-Free; Supplier 1: Digi-Key; Supplier Part Number 1: XC17S50AVOG8C-ND; ComponentLink1Description: XC17S00A Datasheet; ComponentLink1URL: http://www.xilinx.com/support/documentation/data_sheets/ds078.pdf; ComponentLink2Description: VOG8 Package Drawing; ComponentLink2URL: http://www.xilinx.com/support/documentation/package_specs/vo8.pdf; ComponentLink3Description: Configuration PROM Documents; ComponentLink3URL: http://www.xilinx.com/support/documentation/configuration_proms.htm; ComponentLink4Description: Xilinx.com Home; ComponentLink4URL: http://www.xilinx.com
footprint VOG8_N (SOIC, 8-Leads, Body 4.9x3.9mm, Pitch 1.27mm, IPC Medium Density)
footprint VOG8_L (SOIC, 8-Leads, Body 4.9x3.9mm, Pitch 1.27mm, IPC High Density)
footprint VOG8_M (SOIC, 8-Leads, Body 4.9x3.9mm, Pitch 1.27mm, IPC Low Density)
pins: 1 DATA (D0) (io) "Data Output.", 2 CLK (in) "Clock input for internal address counter.", 3 OE/~{RESET} (in) "DATA Output Enable/Address Counter Reset", 4 ~{CE} (in) "Reset internal Address Counter, Disable DATA Output, Force device into Standby Mode.", 5 GND (power) "Ground.", 6 NC "No Connection.", 7 VCC (power) "Positive Supply.", 8 VCC (power) "Positive Supply."

## XC17S100APD8C
designator U?
XC17S00A Series, One-Time Programmable Configuration 3.3V PROM, 8-Pin PDIP, XC2S100/XC2S100E Compatible, Commercial Grade; Published: 17-Dec-2003; DatasheetVersion: ver1.10, Jun-2007; PackageVersion: rev1.1, Apr-2001; PackageReference: PD8; Publisher: Altium Limited; PackageDescription: 8-Pin Plastic DIP (PD8); Supplier 1: Digi-Key; Supplier Part Number 1: XC17S100APD8C-ND; Code_JEDEC: MS-001-BA; ComponentLink1Description: XC17S00A Datasheet; ComponentLink1URL: http://www.xilinx.com/support/documentation/data_sheets/ds078.pdf; ComponentLink2Description: PD8 Package Drawing; ComponentLink2URL: http://www.xilinx.com/support/documentation/package_specs/pd08.pdf; ComponentLink3Description: Configuration PROM Documents; ComponentLink3URL: http://www.xilinx.com/support/documentation/configuration_proms.htm; ComponentLink4Description: Xilinx.com Home; ComponentLink4URL: http://www.xilinx.com
footprint PD8 (DIP, 8-Leads, Row Spacing 7.62mm, Pitch 2.54mm, Body 9.36x6.5mm)
pins: 1 DATA (D0) (io) "Data Output.", 2 CLK (in) "Clock input for internal address counter.", 3 OE/~{RESET} (in) "DATA Output Enable/Address Counter Reset", 4 ~{CE} (in) "Reset internal Address Counter, Disable DATA Output, Force device into Standby Mode.", 5 GND (power) "Ground.", 6 NC "No Connection.", 7 VCC (power) "Positive Supply.", 8 VCC (power) "Positive Supply."

## XC17S100APD8I
designator U?
XC17S00A Series, One-Time Programmable Configuration 3.3V PROM, 8-Pin PDIP, XC2S100/XC2S100E Compatible, Industrial Grade; Published: 17-Dec-2003; DatasheetVersion: ver1.10, Jun-2007; PackageVersion: rev1.1, Apr-2001; PackageReference: PD8; Publisher: Altium Limited; PackageDescription: 8-Pin Plastic DIP (PD8); Supplier 1: Digi-Key; Supplier Part Number 1: XC17S100APD8I-ND; Code_JEDEC: MS-001-BA; ComponentLink1Description: XC17S00A Datasheet; ComponentLink1URL: http://www.xilinx.com/support/documentation/data_sheets/ds078.pdf; ComponentLink2Description: PD8 Package Drawing; ComponentLink2URL: http://www.xilinx.com/support/documentation/package_specs/pd08.pdf; ComponentLink3Description: Configuration PROM Documents; ComponentLink3URL: http://www.xilinx.com/support/documentation/configuration_proms.htm; ComponentLink4Description: Xilinx.com Home; ComponentLink4URL: http://www.xilinx.com
footprint PD8 (DIP, 8-Leads, Row Spacing 7.62mm, Pitch 2.54mm, Body 9.36x6.5mm)
pins: 1 DATA (D0) (io) "Data Output.", 2 CLK (in) "Clock input for internal address counter.", 3 OE/~{RESET} (in) "DATA Output Enable/Address Counter Reset", 4 ~{CE} (in) "Reset internal Address Counter, Disable DATA Output, Force device into Standby Mode.", 5 GND (power) "Ground.", 6 NC "No Connection.", 7 VCC (power) "Positive Supply.", 8 VCC (power) "Positive Supply."

## XC17S100ASO20C
designator U?
XC17S00A Series, One-Time Programmable Configuration 3.3V PROM, 20-Pin SOIC, XC2S100/XC2S100E Compatible, Commercial Grade; Published: 17-Dec-2003; LatestRevisionDate: 16-Nov-2009; LatestRevisionNote: Updated to datasheet version 1.10, Jun-2007.; DatasheetVersion: ver1.10, Jun-2007; PackageVersion: ver1.0, Jun-2000; PackageReference: SO20; Publisher: Altium Limited; PackageDescription: 20-Pin Small Outline Package (SO20); Supplier 1: Digi-Key; Supplier Part Number 1: XC17S100ASO20C-ND; Code_JEDEC: MS-013-AC; ComponentLink1Description: XC17S00A Datasheet; ComponentLink1URL: http://www.xilinx.com/support/documentation/data_sheets/ds078.pdf; ComponentLink2Description: SO20 Package Drawing; ComponentLink2URL: http://www.xilinx.com/support/documentation/package_specs/so20.pdf; ComponentLink3Description: Configuration PROM Documents; ComponentLink3URL: http://www.xilinx.com/support/documentation/configuration_proms.htm; ComponentLink4Description: Xilinx.com Home; ComponentLink4URL: http://www.xilinx.com
footprint SO20_N (SOIC, 20-Leads, Body 12.8x7.5mm, Pitch 1.27mm, IPC Medium Density)
footprint SO20_L (SOIC, 20-Leads, Body 12.8x7.5mm, Pitch 1.27mm, IPC High Density)
footprint SO20_M (SOIC, 20-Leads, Body 12.8x7.5mm, Pitch 1.27mm, IPC Low Density)
pins: 1 DATA (D0) (io) "Data Output.", 2 NC "No Connection.", 3 CLK (in) "Clock input for internal address counter.", 4 NC "No Connection.", 5 NC "No Connection.", 6 NC "No Connection.", 7 NC "No Connection.", 8 OE/~{RESET} (in) "DATA Output Enable/Address Counter Reset", 9 NC "No Connection.", 10 ~{CE} (in) "Reset internal Address Counter, Disable DATA Output, Force device into Standby Mode.", 11 GND (power) "Ground.", 12 NC "No Connection.", 13 NC "No Connection.", 14 NC "No Connection.", 15 NC "No Connection.", 16 NC "No Connection.", 17 NC "No Connection.", 18 VCC (power) "Positive Supply.", 19 NC "No Connection.", 20 VCC (power) "Positive Supply."

## XC17S100ASO20I
designator U?
XC17S00A Series, One-Time Programmable Configuration 3.3V PROM, 20-Pin SOIC, XC2S100/XC2S100E Compatible, Industrial Grade; Published: 17-Dec-2003; LatestRevisionDate: 16-Nov-2009; LatestRevisionNote: Updated to datasheet version 1.10, Jun-2007.; DatasheetVersion: ver1.10, Jun-2007; PackageVersion: ver1.0, Jun-2000; PackageReference: SO20; Publisher: Altium Limited; PackageDescription: 20-Pin Small Outline Package (SO20); Supplier 1: Digi-Key; Supplier Part Number 1: XC17S100ASO20I-ND; Code_JEDEC: MS-013-AC; ComponentLink1Description: XC17S00A Datasheet; ComponentLink1URL: http://www.xilinx.com/support/documentation/data_sheets/ds078.pdf; ComponentLink2Description: SO20 Package Drawing; ComponentLink2URL: http://www.xilinx.com/support/documentation/package_specs/so20.pdf; ComponentLink3Description: Configuration PROM Documents; ComponentLink3URL: http://www.xilinx.com/support/documentation/configuration_proms.htm; ComponentLink4Description: Xilinx.com Home; ComponentLink4URL: http://www.xilinx.com
footprint SO20_N (SOIC, 20-Leads, Body 12.8x7.5mm, Pitch 1.27mm, IPC Medium Density)
footprint SO20_L (SOIC, 20-Leads, Body 12.8x7.5mm, Pitch 1.27mm, IPC High Density)
footprint SO20_M (SOIC, 20-Leads, Body 12.8x7.5mm, Pitch 1.27mm, IPC Low Density)
pins: 1 DATA (D0) (io) "Data Output.", 2 NC "No Connection.", 3 CLK (in) "Clock input for internal address counter.", 4 NC "No Connection.", 5 NC "No Connection.", 6 NC "No Connection.", 7 NC "No Connection.", 8 OE/~{RESET} (in) "DATA Output Enable/Address Counter Reset", 9 NC "No Connection.", 10 ~{CE} (in) "Reset internal Address Counter, Disable DATA Output, Force device into Standby Mode.", 11 GND (power) "Ground.", 12 NC "No Connection.", 13 NC "No Connection.", 14 NC "No Connection.", 15 NC "No Connection.", 16 NC "No Connection.", 17 NC "No Connection.", 18 VCC (power) "Positive Supply.", 19 NC "No Connection.", 20 VCC (power) "Positive Supply."

## XC17S100AVO8C
designator U?
XC17S00A Series, One-Time Programmable Configuration 3.3V PROM, 8-Pin TSOP, XC2S100/XC2S100E Compatible, Commercial Grade; Published: 17-Dec-2003; LatestRevisionDate: 16-Nov-2009; LatestRevisionNote: Updated to datasheet version 1.10, Jun-2007.; DatasheetVersion: ver1.10, Jun-2007; PackageVersion: ver1.1, Apr-2001; PackageReference: VO8; Publisher: Altium Limited; PackageDescription: 8-Pin Thin Small Outline Package (VO8); Supplier 1: Digi-Key; Supplier Part Number 1: XC17S100AVO8C-ND; ComponentLink1Description: XC17S00A Datasheet; ComponentLink1URL: http://www.xilinx.com/support/documentation/data_sheets/ds078.pdf; ComponentLink2Description: VO8 Package Drawing; ComponentLink2URL: http://www.xilinx.com/support/documentation/package_specs/vo8.pdf; ComponentLink3Description: Configuration PROM Documents; ComponentLink3URL: http://www.xilinx.com/support/documentation/configuration_proms.htm; ComponentLink4Description: Xilinx.com Home; ComponentLink4URL: http://www.xilinx.com
footprint VO8_N (SOIC, 8-Leads, Body 4.9x3.9mm, Pitch 1.27mm, IPC Medium Density)
footprint VO8_L (SOIC, 8-Leads, Body 4.9x3.9mm, Pitch 1.27mm, IPC High Density)
footprint VO8_M (SOIC, 8-Leads, Body 4.9x3.9mm, Pitch 1.27mm, IPC Low Density)
pins: 1 DATA (D0) (io) "Data Output.", 2 CLK (in) "Clock input for internal address counter.", 3 OE/~{RESET} (in) "DATA Output Enable/Address Counter Reset", 4 ~{CE} (in) "Reset internal Address Counter, Disable DATA Output, Force device into Standby Mode.", 5 GND (power) "Ground.", 6 NC "No Connection.", 7 VCC (power) "Positive Supply.", 8 VCC (power) "Positive Supply."

## XC17S100AVO8I
designator U?
XC17S00A Series, One-Time Programmable Configuration 3.3V PROM, 8-Pin TSOP, XC2S100/XC2S100E Compatible, Industrial Grade; Published: 17-Dec-2003; LatestRevisionDate: 16-Nov-2009; LatestRevisionNote: Updated to datasheet version 1.10, Jun-2007.; DatasheetVersion: ver1.10, Jun-2007; PackageVersion: ver1.1, Apr-2001; PackageReference: VO8; Publisher: Altium Limited; PackageDescription: 8-Pin Thin Small Outline Package (VO8); Supplier 1: Digi-Key; Supplier Part Number 1: XC17S100AVO8I-ND; ComponentLink1Description: XC17S00A Datasheet; ComponentLink1URL: http://www.xilinx.com/support/documentation/data_sheets/ds078.pdf; ComponentLink2Description: VO8 Package Drawing; ComponentLink2URL: http://www.xilinx.com/support/documentation/package_specs/vo8.pdf; ComponentLink3Description: Configuration PROM Documents; ComponentLink3URL: http://www.xilinx.com/support/documentation/configuration_proms.htm; ComponentLink4Description: Xilinx.com Home; ComponentLink4URL: http://www.xilinx.com
footprint VO8_N (SOIC, 8-Leads, Body 4.9x3.9mm, Pitch 1.27mm, IPC Medium Density)
footprint VO8_L (SOIC, 8-Leads, Body 4.9x3.9mm, Pitch 1.27mm, IPC High Density)
footprint VO8_M (SOIC, 8-Leads, Body 4.9x3.9mm, Pitch 1.27mm, IPC Low Density)
pins: 1 DATA (D0) (io) "Data Output.", 2 CLK (in) "Clock input for internal address counter.", 3 OE/~{RESET} (in) "DATA Output Enable/Address Counter Reset", 4 ~{CE} (in) "Reset internal Address Counter, Disable DATA Output, Force device into Standby Mode.", 5 GND (power) "Ground.", 6 NC "No Connection.", 7 VCC (power) "Positive Supply.", 8 VCC (power) "Positive Supply."

## XC17S100AVOG8C
designator U?
XC17S00A Series, One-Time Programmable Configuration 3.3V PROM, 8-Pin TSOP, XC2S100/XC2S100E Compatible, Commercial Grade, Pb-Free; Published: 17-Nov-2009; DatasheetVersion: ver1.10, Jun-2007; PackageVersion: ver1.1, Apr-2001; PackageReference: VOG8; Publisher: Altium Limited; PackageDescription: 8-Pin Thin Small Outline Package (VOG8) - Pb-Free; Supplier 1: Digi-Key; Supplier Part Number 1: XC17S100AVOG8C-ND; ComponentLink1Description: XC17S00A Datasheet; ComponentLink1URL: http://www.xilinx.com/support/documentation/data_sheets/ds078.pdf; ComponentLink2Description: VOG8 Package Drawing; ComponentLink2URL: http://www.xilinx.com/support/documentation/package_specs/vo8.pdf; ComponentLink3Description: Configuration PROM Documents; ComponentLink3URL: http://www.xilinx.com/support/documentation/configuration_proms.htm; ComponentLink4Description: Xilinx.com Home; ComponentLink4URL: http://www.xilinx.com
footprint VOG8_N (SOIC, 8-Leads, Body 4.9x3.9mm, Pitch 1.27mm, IPC Medium Density)
footprint VOG8_L (SOIC, 8-Leads, Body 4.9x3.9mm, Pitch 1.27mm, IPC High Density)
footprint VOG8_M (SOIC, 8-Leads, Body 4.9x3.9mm, Pitch 1.27mm, IPC Low Density)
pins: 1 DATA (D0) (io) "Data Output.", 2 CLK (in) "Clock input for internal address counter.", 3 OE/~{RESET} (in) "DATA Output Enable/Address Counter Reset", 4 ~{CE} (in) "Reset internal Address Counter, Disable DATA Output, Force device into Standby Mode.", 5 GND (power) "Ground.", 6 NC "No Connection.", 7 VCC (power) "Positive Supply.", 8 VCC (power) "Positive Supply."

## XC17S150APD8C
designator U?
XC17S00A Series, One-Time Programmable Configuration 3.3V PROM, 8-Pin PDIP, XC2S150 Compatible, Commercial Grade; Published: 17-Dec-2003; DatasheetVersion: ver1.10, Jun-2007; PackageVersion: rev1.1, Apr-2001; PackageReference: PD8; Publisher: Altium Limited; PackageDescription: 8-Pin Plastic DIP (PD8); Supplier 1: Digi-Key; Supplier Part Number 1: XC17S150APD8C-ND; Code_JEDEC: MS-001-BA; ComponentLink1Description: XC17S00A Datasheet; ComponentLink1URL: http://www.xilinx.com/support/documentation/data_sheets/ds078.pdf; ComponentLink2Description: PD8 Package Drawing; ComponentLink2URL: http://www.xilinx.com/support/documentation/package_specs/pd08.pdf; ComponentLink3Description: Configuration PROM Documents; ComponentLink3URL: http://www.xilinx.com/support/documentation/configuration_proms.htm; ComponentLink4Description: Xilinx.com Home; ComponentLink4URL: http://www.xilinx.com
footprint PD8 (DIP, 8-Leads, Row Spacing 7.62mm, Pitch 2.54mm, Body 9.36x6.5mm)
pins: 1 DATA (D0) (io) "Data Output.", 2 CLK (in) "Clock input for internal address counter.", 3 OE/~{RESET} (in) "DATA Output Enable/Address Counter Reset", 4 ~{CE} (in) "Reset internal Address Counter, Disable DATA Output, Force device into Standby Mode.", 5 GND (power) "Ground.", 6 NC "No Connection.", 7 VCC (power) "Positive Supply.", 8 VCC (power) "Positive Supply."

## XC17S150APD8I
designator U?
XC17S00A Series, One-Time Programmable Configuration 3.3V PROM, 8-Pin PDIP, XC2S150 Compatible, Industrial Grade; Published: 17-Dec-2003; DatasheetVersion: ver1.10, Jun-2007; PackageVersion: rev1.1, Apr-2001; PackageReference: PD8; Publisher: Altium Limited; PackageDescription: 8-Pin Plastic DIP (PD8); Supplier 1: Digi-Key; Supplier Part Number 1: XC17S150APD8I-ND; Code_JEDEC: MS-001-BA; ComponentLink1Description: XC17S00A Datasheet; ComponentLink1URL: http://www.xilinx.com/support/documentation/data_sheets/ds078.pdf; ComponentLink2Description: PD8 Package Drawing; ComponentLink2URL: http://www.xilinx.com/support/documentation/package_specs/pd08.pdf; ComponentLink3Description: Configuration PROM Documents; ComponentLink3URL: http://www.xilinx.com/support/documentation/configuration_proms.htm; ComponentLink4Description: Xilinx.com Home; ComponentLink4URL: http://www.xilinx.com
footprint PD8 (DIP, 8-Leads, Row Spacing 7.62mm, Pitch 2.54mm, Body 9.36x6.5mm)
pins: 1 DATA (D0) (io) "Data Output.", 2 CLK (in) "Clock input for internal address counter.", 3 OE/~{RESET} (in) "DATA Output Enable/Address Counter Reset", 4 ~{CE} (in) "Reset internal Address Counter, Disable DATA Output, Force device into Standby Mode.", 5 GND (power) "Ground.", 6 NC "No Connection.", 7 VCC (power) "Positive Supply.", 8 VCC (power) "Positive Supply."